# Altium footprint library header 2 pin.PcbLib: 1 footprints
Each footprint in its own frame and in the unit in brackets; x right, y up, seen from the top. Pads: shape width x height; smd on the part's side, far side on the other; paste and mask are expansions set on the pad; w line width, h text height; cw(c..) or ccw(c..) is an arc to the next point about the centre after c.
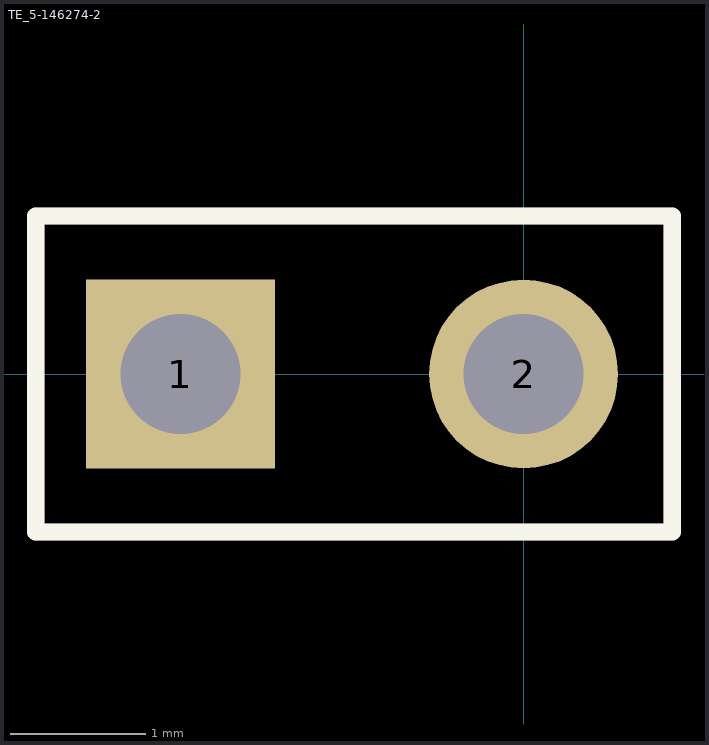
[diagram p0: the footprint, top view; thin cyan lines are the x and y axes]

## TE_5-146274-2 [mm]
pads (2):
  rect 1.398x1.398 hole 0.89: 1(-2.54,0)
  round 1.398 hole 0.89: 2(0,0)
Top Overlay:
  lines w0.127: -3.61,-1.17 1.1,-1.17 1.1,1.17 -3.61,1.17 -3.61,-1.17
Mechanical 1:
  lines w0.127: -3.61,-1.17 1.1,-1.17 1.1,1.17 -3.61,1.17 -3.61,-1.17
3D body "pin header 1x2 and jumper_yellow.STEP": height 9, standoff -2.99, extent -3.93,-1.275 1.38,1.265